# Altium footprint library TOxx.PcbLib: 93 footprints (part 3 of 6)
Each footprint in its own frame and in the unit in brackets; x right, y up, seen from the top. Pads: shape width x height; smd on the part's side, far side on the other; paste and mask are expansions set on the pad; w line width, h text height; cw(c..) or ccw(c..) is an arc to the next point about the centre after c.
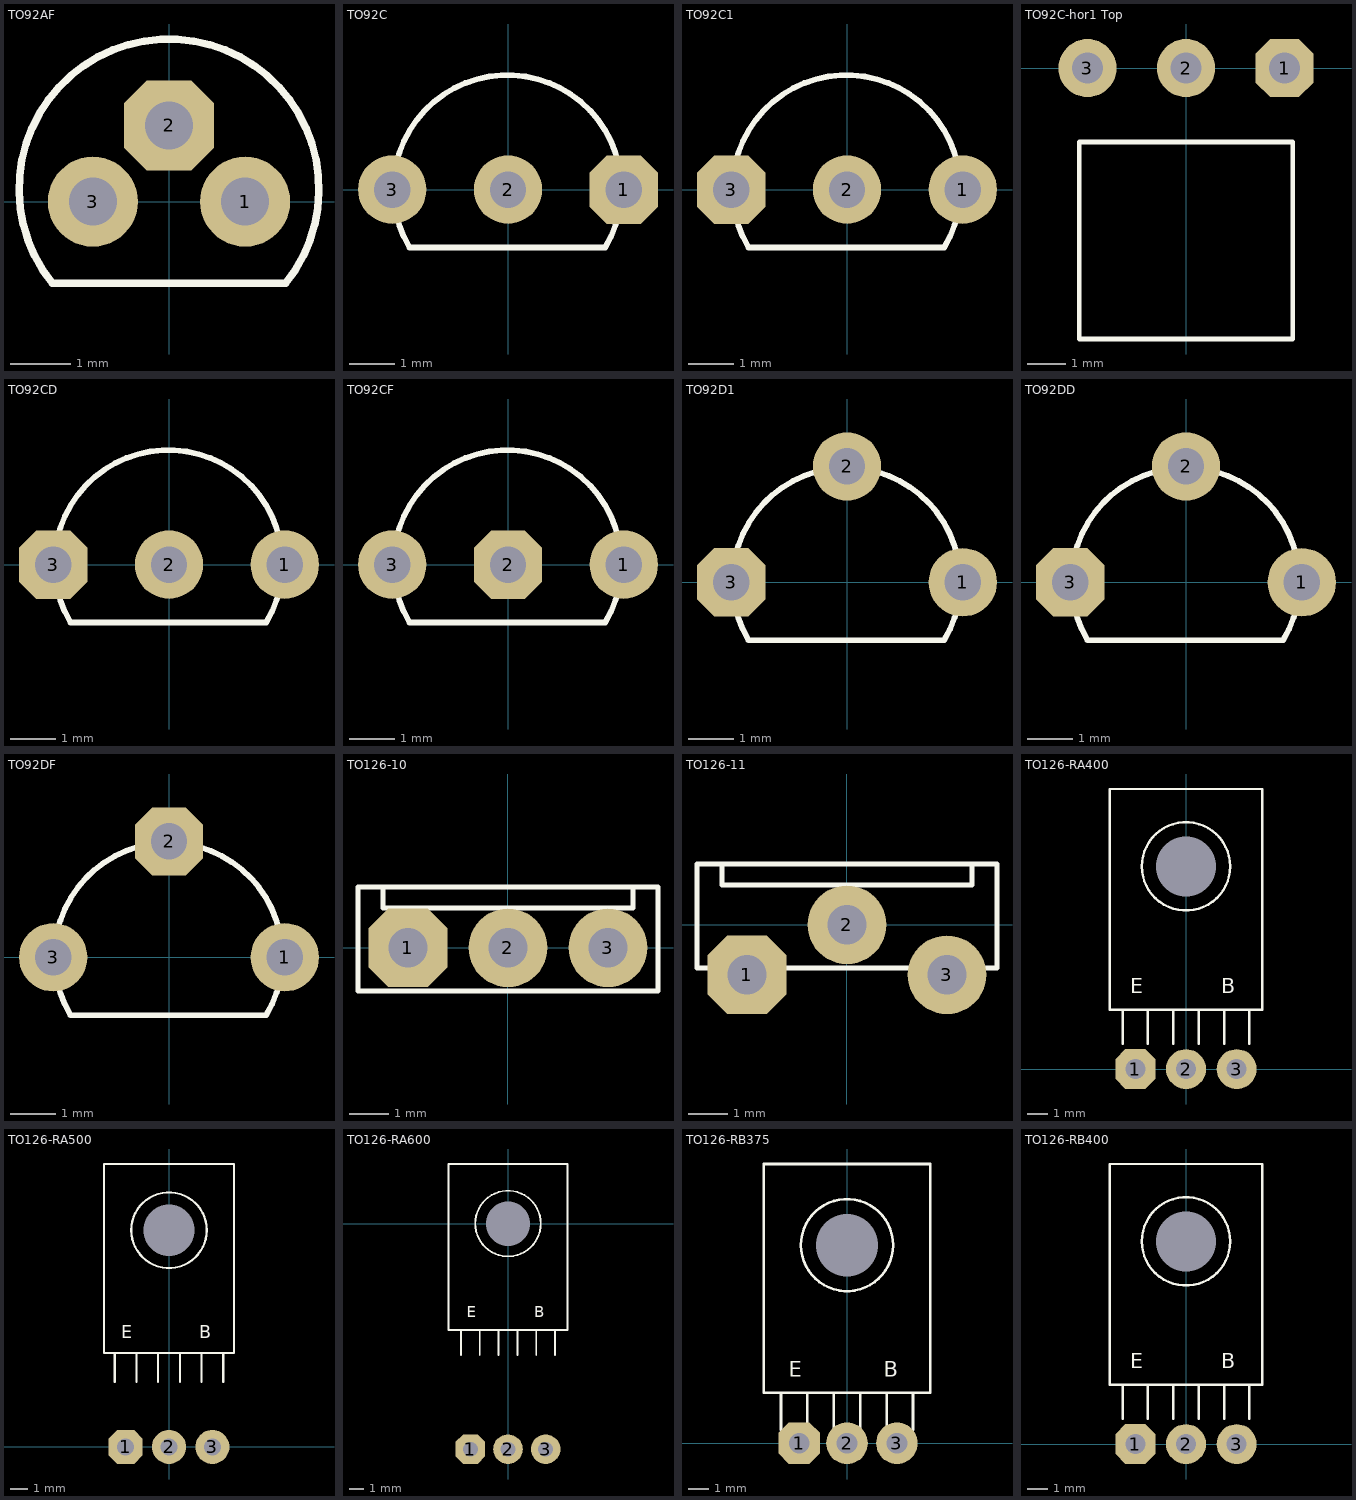
[diagram p2: the footprints below, top view; thin cyan lines are the x and y axes]

## TO92AF [mm]
pads (3):
  round 1.5 hole 0.8: 1(1.27,0) 3(-1.27,0)
  oct 1.5x1.5 hole 0.8: 2(0,1.27)
TopOverlay:
  lines w0.125: -1.943,-1.362 cw(c0,0.212) 1.943,-1.362 -1.943,-1.362
3D body: height 8, standoff -3.02, extent -2.413,-1.524 2.387,2.406

## TO92C [mm]
pads (3):
  oct 1.5x1.5 hole 0.8: 1(2.54,0)
  round 1.5 hole 0.8: 2(0,0) 3(-2.54,0)
TopOverlay:
  lines w0.125: -2.159,-1.27 cw(c-0.013,0.012) 2.133,-1.27 -2.159,-1.27
3D body: height 8, standoff -3.02, extent -2.787,-1.517 2.787,2.413

## TO92C1 [mm]
pads (3):
  round 1.5 hole 0.8: 1(2.54,0) 2(0,0)
  oct 1.5x1.5 hole 0.8: 3(-2.54,0)
TopOverlay:
  lines w0.125: -2.159,-1.27 cw(c-0.013,0.012) 2.133,-1.27 -2.159,-1.27
3D body: height 8, standoff -3.02, extent -2.787,-1.517 2.787,2.413

## TO92C-hor1 Top [mm]
pads (3):
  oct 1.5x1.5 hole 0.8: 1(2.54,0)
  round 1.5 hole 0.8: 2(0,0) 3(-2.54,0)
TopOverlay:
  lines w0.125: -2.751,-6.985 -2.751,-1.905 2.751,-1.905 2.751,-6.985 -2.751,-6.985
3D body: height 4, standoff -2.43, extent -2.818,-6.987 2.818,0.291

## TO92CD [mm]
pads (3):
  round 1.5 hole 0.8: 1(2.54,0) 2(0,0)
  oct 1.5x1.5 hole 0.8: 3(-2.54,0)
TopOverlay:
  lines w0.125: -2.159,-1.27 cw(c-0.013,0.012) 2.133,-1.27 -2.159,-1.27
3D body: height 8, standoff -3.02, extent -2.794,-1.524 2.781,2.406

## TO92CF [mm]
pads (3):
  round 1.5 hole 0.8: 1(2.54,0) 3(-2.54,0)
  oct 1.5x1.5 hole 0.8: 2(0,0)
TopOverlay:
  lines w0.125: -2.159,-1.27 cw(c-0.013,0.012) 2.133,-1.27 -2.159,-1.27
3D body: height 8, standoff -3.02, extent -2.787,-2.394 2.787,1.536

## TO92D1 [mm]
pads (3):
  round 1.5 hole 0.8: 1(2.54,0) 2(0,2.54)
  oct 1.5x1.5 hole 0.8: 3(-2.54,0)
TopOverlay:
  lines w0.125: -2.159,-1.27 cw(c-0.013,0.012) 2.133,-1.27 -2.159,-1.27
3D body: height 8, standoff -3.02, extent -2.787,-1.546 2.787,2.794

## TO92DD [mm]
pads (3):
  round 1.5 hole 0.8: 1(2.54,0) 2(0,2.54)
  oct 1.5x1.5 hole 0.8: 3(-2.54,0)
TopOverlay:
  lines w0.125: -2.159,-1.27 cw(c-0.013,0.012) 2.133,-1.27 -2.159,-1.27
3D body: height 8, standoff -3.02, extent -2.787,-1.546 2.787,2.794

## TO92DF [mm]
pads (3):
  round 1.5 hole 0.8: 1(2.54,0) 3(-2.54,0)
  oct 1.5x1.5 hole 0.8: 2(0,2.54)
TopOverlay:
  lines w0.125: -2.159,-1.27 cw(c-0.013,0.012) 2.133,-1.27 -2.159,-1.27
3D body: height 8, standoff -3.02, extent -2.787,-1.546 2.787,2.794

## TO126-10 [mm]
pads (3):
  oct 2x2 hole 1: 1(-2.54,0)
  round 2 hole 1: 2(0,0) 3(2.54,0)
TopOverlay:
  lines w0.125: -3.175,1.55 -3.175,1.016 3.175,1.016 3.175,1.55 ; -3.81,-1.101 3.81,-1.101 3.81,1.55 -3.81,1.55 -3.81,-1.101
3D body: height 13.02, standoff -2.28, extent -3.81,-1.041 3.81,1.55

## TO126-11 [mm]
pads (3):
  oct 2x2 hole 1: 1(-2.54,-1.27)
  round 2 hole 1: 2(0,0) 3(2.54,-1.27)
TopOverlay:
  lines w0.125: -3.175,1.55 -3.175,1.016 3.175,1.016 3.175,1.55 ; -3.81,-1.101 -3.81,1.55 3.81,1.55 3.81,-1.101 -3.81,-1.101
3D body: height 13.02, standoff -2.28, extent -3.81,-1.524 3.81,1.55

## TO126-RA400 [mm]
pads (4):
  round 0 hole 3 unplated: 0(0,10.16)
  oct 2x2 hole 1: 1(-2.54,0)
  round 2 hole 1: 2(0,0) 3(2.54,0)
TopOverlay:
  circle w0.125: c0,10.16 r2.214
  lines w0.125: -3.175,1.27 -3.175,2.963 ; -1.905,1.27 -1.905,2.963 ; -0.635,1.27 -0.635,2.963 ; 0.635,1.27 0.635,2.963 ; 1.905,1.27 1.905,2.963 ; 3.175,1.27 3.175,2.963 ; -3.81,2.963 -3.81,14.037 3.81,14.037 3.81,2.963 -2.963,2.963 -3.81,2.963
  text "B" at 1.778,3.556 h1.27
  text "E" at -2.794,3.556 h1.27
3D body: height 2.8, standoff -3.07, extent -3.81,-0.254 3.81,14.037

## TO126-RA500 [mm]
pads (4):
  round 0 hole 3 unplated: 0(0,12.7)
  oct 2x2 hole 1: 1(-2.54,0)
  round 2 hole 1: 2(0,0) 3(2.54,0)
TopOverlay:
  circle w0.125: c0,12.7 r2.214
  lines w0.125: -3.175,3.81 -3.175,5.503 ; -1.905,3.81 -1.905,5.503 ; -0.635,3.81 -0.635,5.503 ; 0.635,3.81 0.635,5.503 ; 1.905,3.81 1.905,5.503 ; 3.175,3.81 3.175,5.503 ; -3.81,5.503 -3.81,16.577 3.81,16.577 3.81,5.503 -2.963,5.503 -3.81,5.503
  text "B" at 1.778,6.096 h1.27
  text "E" at -2.794,6.096 h1.27
3D body: height 2.8, standoff -3.07, extent -3.81,-0.254 3.81,16.577

## TO126-RA600 [mm]
pads (4):
  round 0 hole 3 unplated: 0(0,0)
  oct 2x2 hole 1: 1(-2.54,-15.24)
  round 2 hole 1: 2(0,-15.24) 3(2.54,-15.24)
TopOverlay:
  circle w0.125: c0,0 r2.214
  lines w0.125: -3.175,-8.89 -3.175,-7.197 ; -1.905,-8.89 -1.905,-7.197 ; -0.635,-8.89 -0.635,-7.197 ; 0.635,-8.89 0.635,-7.197 ; 1.905,-8.89 1.905,-7.197 ; 3.175,-8.89 3.175,-7.197 ; -4.022,-7.197 -2.963,-7.197 4.022,-7.197 4.022,4.022 -4.022,4.022 -4.022,-7.197
  text "E" at -2.794,-6.604 h1.27
  text "B" at 1.778,-6.604 h1.27
3D body: height 2.8, standoff -3.07, extent -3.81,-15.56 3.81,3.81

## TO126-RB375 [mm]
pads (4):
  round 0 hole 3 unplated: 0(0,9.525)
  oct 2x2 hole 1: 1(-2.3,0)
  round 2 hole 1: 2(0,0) 3(2.4,0)
TopOverlay:
  circle w0.125: c0,9.525 r2.214
  lines w0.125: -3.175,0.635 -3.175,2.328 ; -1.905,0.635 -1.905,2.328 ; -0.635,0.635 -0.635,2.328 ; 0.635,0.635 0.635,2.328 ; 1.905,0.635 1.905,2.328 ; 3.175,0.635 3.175,2.328 ; -4,2.425 -4,13.425 4,13.425 4,2.425 -4,2.425
  text "B" at 1.778,2.921 h1.27
  text "E" at -2.794,2.921 h1.27
3D body: height -2.19, standoff -7.75, extent -4,-0.25 4,13.425

## TO126-RB400 [mm]
pads (4):
  round 0 hole 3 unplated: 0(0,10.16)
  oct 2x2 hole 1: 1(-2.54,0)
  round 2 hole 1: 2(0,0) 3(2.54,0)
TopOverlay:
  circle w0.125: c0,10.16 r2.214
  lines w0.125: -3.175,1.27 -3.175,2.963 ; -1.905,1.27 -1.905,2.963 ; -0.635,1.27 -0.635,2.963 ; 0.635,1.27 0.635,2.963 ; 1.905,1.27 1.905,2.963 ; 3.175,1.27 3.175,2.963 ; -3.81,2.963 -2.963,2.963 3.81,2.963 3.81,14.037 -3.81,14.037 -3.81,2.963
  text "E" at -2.794,3.556 h1.27
  text "B" at 1.778,3.556 h1.27
3D body: height -1.69, standoff -6.8, extent -3.81,-0.254 3.81,14.037